# Altium schematic symbol library ecg_device_components.SchLib: 51 symbols (part 1 of 2)
Pins are listed as number, name and electrical type; pins without a type are passive.

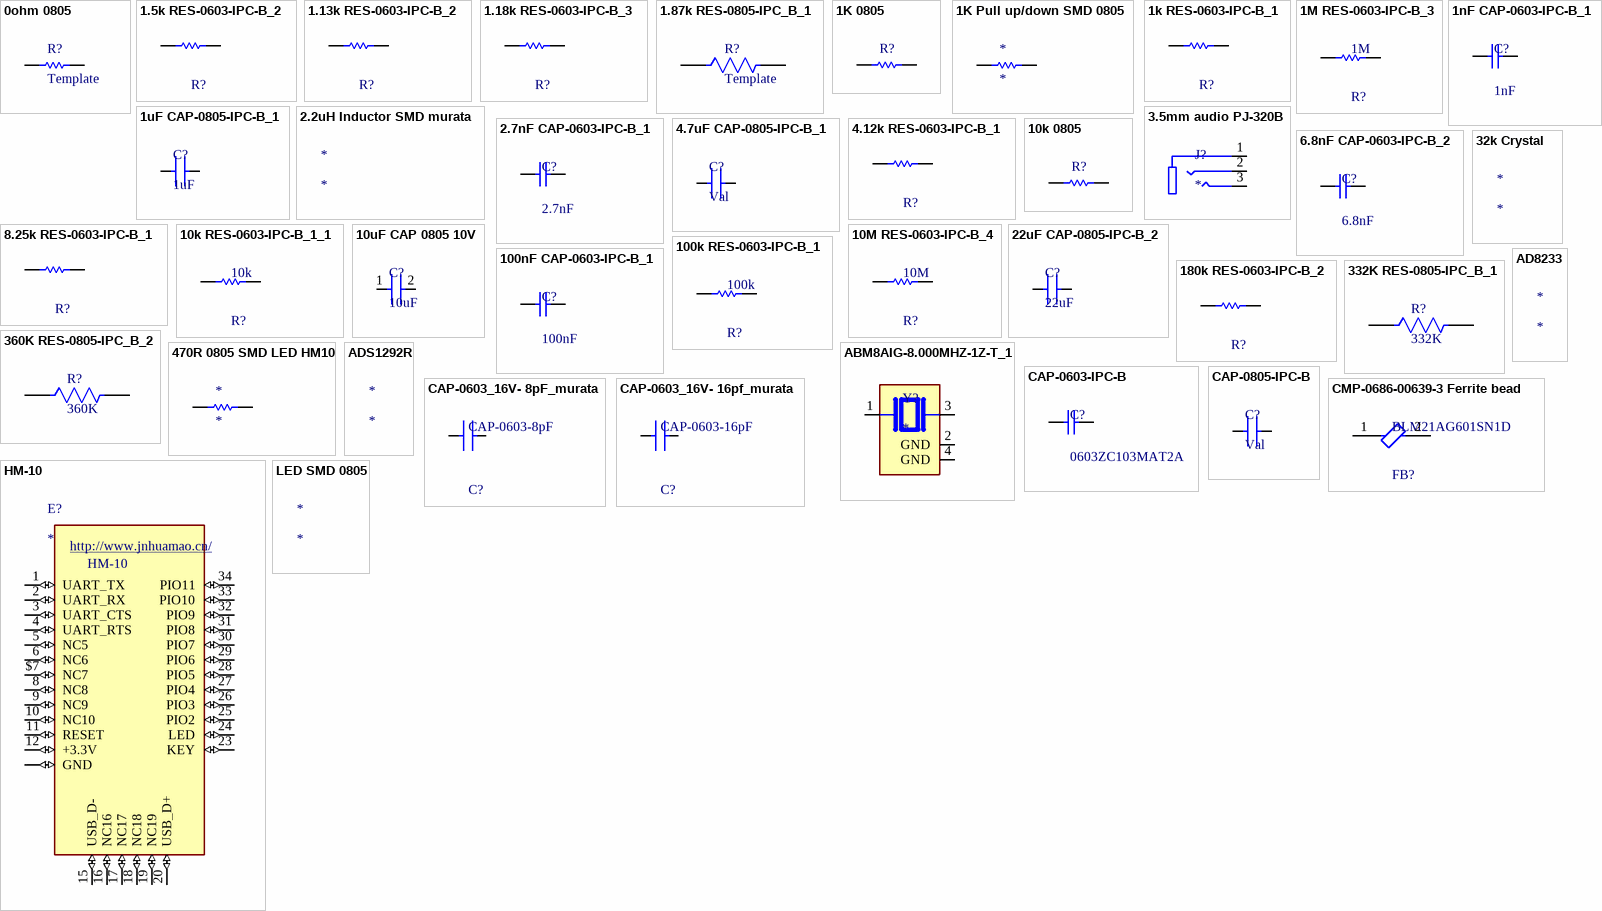
[diagram p0: symbols 0ohm 0805 to LED SMD 0805]

## 0ohm 0805
designator R?, comment Template
RES SMD 0 OHM JUMPER 1/8W 0805 / Thick Film Chip Resistor ( General ); Manufacturer: Samsung Electro-Mechanics; Manufacturer Part Number: RC2012J000CS; Max Power Dissipation: 125mW; Value: 0Ω; Temperature Coefficient: 300ppm/°C; Tolerance: 5%; Voltage Rating: 150V; Supplier: DigiKey; Supplier Part Number: 1276-5466-2-ND; RoHS: Compliant; Category: Chip SMD Resistors; Pricing: 2000000=0.01129 (USD); Case/Package: 0805; Case Code (Imperial): 0805; Case Code (Metric): 2012; China RoHS: Non-Compliant; Composition: Thick Film; Contact Plating: Tin; Country of Origin: Mainland China, Philippines, South Korea; Depth: 1.25mm; Export Control Classification Number (ECCN) Code: EAR99; Features: Moisture Resistant; Height: 500µm; Harmonized Tariff Schedule (HTS) Code: 8533.21.00.30; Introduction Date: 1996-10-01; Lead Free: Lead Free; Length: 2mm; Lifecycle Status: Production; Max Operating Temperature: 125°C; Military Standard: Not; Min Operating Temperature: -55°C; Mounting Technology: Surface Mount; Number of Terminals: 2; Number of Terminations: 2; Power Rating: 125mW; Radiation Hardening: No; REACH SVHC: Yes; Thickness: 500µm; Voltage Rating (DC): 150V; Width: 1.25mm; ComponentLink1URL: https://datasheet.octopart.com/RC2012J000CS-Samsung-Electro-Mechanics-datasheet-41960856.pdf; ComponentLink1Description: https://datasheet.octopart.com/RC2012J000CS-Samsung-Electro-Mechanics-datasheet-41960856.pdf; ComponentLink2URL: https://datasheet.octopart.com:443/RC2012J000CS-Samsung-Electro-Mechanics-datasheet-141348306.pdf?src-supplier=Future+Electronics; ComponentLink2Description: https://datasheet.octopart.com:443/RC2012J000CS-Samsung-Electro-Mechanics-datasheet-141348306.pdf?src-supplier=Future+Electronics; ComponentLink3URL: https://datasheet.octopart.com:443/RC2012J000CS-Samsung-Electro-Mechanics-datasheet-128083940.pdf?src-supplier=Future+Electronics; ComponentLink3Description: https://datasheet.octopart.com:443/RC2012J000CS-Samsung-Electro-Mechanics-datasheet-128083940.pdf?src-supplier=Future+Electronics; ComponentLink4URL: https://datasheet.octopart.com:443/RC2012J000CS-Samsung-datasheet-23755059.pdf?src-supplier=Future+Electronics; ComponentLink4Description: https://datasheet.octopart.com:443/RC2012J000CS-Samsung-datasheet-23755059.pdf?src-supplier=Future+Electronics; ComponentLink5URL: https://datasheet.octopart.com:443/RC2012J000CS-Samsung-datasheet-12510193.pdf?src-supplier=Future+Electronics; ComponentLink5Description: https://datasheet.octopart.com:443/RC2012J000CS-Samsung-datasheet-12510193.pdf?src-supplier=Future+Electronics; ComponentLink6URL: https://datasheet.octopart.com:443/RC2012J000CS-Samsung-Electro-Mechanics-datasheet-17925232.pdf?src-supplier=iiiC; ComponentLink6Description: https://datasheet.octopart.com:443/RC2012J000CS-Samsung-Electro-Mechanics-datasheet-17925232.pdf?src-supplier=iiiC
footprint RESC2013X60X35ML10T20 (Chip Resistor, 2-Leads, Body 2.1x1.35mm, IPC Low Density)
pins: 1, 2

## 1.5k RES-0603-IPC-B_2
designator R?
Max Power Dissipation: 100mW; Temperature Coefficient: 50ppm/°C; Tolerance: 0.5%; Resistance: 4.7kR; Height: 0.022inch; Width: 0.032inch; RoHS Compliant: Yes; Features: Moisture Resistant; Packaging: Tape and Reel; Number of Terminations: 2; Max Operating Temperature: 155°C; Series: AT; Min Operating Temperature: -55°C; Resistor Type: Thin Film; Length: 0.063inch; Case/Package: 0603
footprint RES-0603-IPC_B
pins: 1, 2

## 1.13k RES-0603-IPC-B_2
designator R?
Max Power Dissipation: 100mW; Temperature Coefficient: 50ppm/°C; Tolerance: 0.5%; Resistance: 4.7kR; Height: 0.022inch; Width: 0.032inch; RoHS Compliant: Yes; Features: Moisture Resistant; Packaging: Tape and Reel; Number of Terminations: 2; Max Operating Temperature: 155°C; Series: AT; Min Operating Temperature: -55°C; Resistor Type: Thin Film; Length: 0.063inch; Case/Package: 0603
footprint RES-0603-IPC_B
pins: 1, 2

## 1.18k RES-0603-IPC-B_3
designator R?
Max Power Dissipation: 100mW; Temperature Coefficient: 50ppm/°C; Tolerance: 0.5%; Resistance: 4.7kR; Height: 0.022inch; Width: 0.032inch; RoHS Compliant: Yes; Features: Moisture Resistant; Packaging: Tape and Reel; Number of Terminations: 2; Max Operating Temperature: 155°C; Series: AT; Min Operating Temperature: -55°C; Resistor Type: Thin Film; Length: 0.063inch; Case/Package: 0603
footprint RES-0603-IPC_B
pins: 1, 2

## 1.87k RES-0805-IPC_B_1
designator R?, comment Template
200mW Thick Film Resistors ±50ppm/℃ ±0.1% 1.87kΩ 0805 Chip Resistor - Surface Mount ROHS; Manufacturer: Panasonic; Manufacturer Part Number: ERJPB6B1871V; Manufacturer Lifecycle Status: ACTIVE; Part Series: High Precision Thick Film Chip Resistors; Power Rating: 250mW; Temperature Coefficient: 50ppm/°C; Working Voltage: 150V; Supplier: Farnell; Supplier Part Number: ERJPB6B1871V; RoHS: Compliant; Category: Chip SMD Resistors; Pricing: 5000=0.0407 (GBP); Case/Package: 0805; Height: 600µm; Length: 2mm; Lifecycle Status: Production; Max Operating Temperature: 155°C; Min Operating Temperature: -55°C; Mounting Technology: Surface Mount; Number of Terminals: 2; Ratings: AEC-Q200; REACH SVHC: Yes; Value: 1.87kΩ; Schedule B: 8533210045; Tolerance: 0.1%; Width: 1.25mm; ComponentLink1URL: https://datasheet.octopart.com:443/ERJPB6B1871V-Panasonic-datasheet-182147307.pdf?src-supplier=IHS; ComponentLink1Description: https://datasheet.octopart.com:443/ERJPB6B1871V-Panasonic-datasheet-182147307.pdf?src-supplier=IHS; ComponentLink2URL: https://datasheet.octopart.com:443/ERJPB6B1871V-Panasonic-datasheet-82522998.pdf?src-supplier=Panasonic; ComponentLink2Description: https://datasheet.octopart.com:443/ERJPB6B1871V-Panasonic-datasheet-82522998.pdf?src-supplier=Panasonic; ComponentLink3URL: https://sigma.octopart.com:443/150570796/technical_drawing/Panasonic-ERJPB6B1871V.pdf?src-supplier=Panasonic+SCT; ComponentLink3Description: https://sigma.octopart.com:443/150570796/technical_drawing/Panasonic-ERJPB6B1871V.pdf?src-supplier=Panasonic+SCT; ComponentLink4URL: https://datasheet.octopart.com:443/ERJPB6B1871V-Panasonic-datasheet-177212511.pdf?src-supplier=Burklin+Elektronik; ComponentLink4Description: https://datasheet.octopart.com:443/ERJPB6B1871V-Panasonic-datasheet-177212511.pdf?src-supplier=Burklin+Elektronik
footprint RES 0805 Medium (Chip Resistor, 2-Leads, Body 2.1x1.35mm, IPC Medium Density)
pins: 1, 2

## 1K 0805
designator R?, comment Template  (value not drawn)
footprint RESC2013X60X35ML10T20 (Chip Resistor, 2-Leads, Body 2.1x1.35mm, IPC Low Density)
pins: 1, 2

## 1K Pull up/down SMD 0805
designator *
Yageo RC0805FR-071KL SMD Resistor 0603 1k Ohm ±1% Thick Film; Manufacturer: Yageo Group; Max Power Dissipation: 125mW; Value: 1kΩ; Temperature Coefficient: 100ppm/°C; Voltage Rating: 150V; Supplier: Future Electronics; Supplier Part Number: RC0805FR-071KL; Manufacturer Part Number: RC0805FR-071KL; RoHS: Compliant; Category: Chip SMD Resistors; Stock: 2345000; Pricing: 10000=0.0021, 50000=0.002, 125000=0.002, 375000=0.0019, 750000=0.0018 (USD); Case/Package: 0805; Case Code (Imperial): 0805; China RoHS: Non-Compliant; Composition: Thick Film; Contact Plating: Tin; Country of Origin: Mainland China, Taiwan; Depth: 1.25mm; Export Control Classification Number (ECCN) Code: EAR99; Features: Moisture Resistant; Height: 500µm; Harmonized Tariff Schedule (HTS) Code: 8533.21.00.30; Introduction Date: 2004-09-22; Lead Free: Lead Free; Length: 2mm; Lifecycle Status: Production; Max Operating Temperature: 155°C; Military Standard: Not; Min Operating Temperature: -55°C; Mounting Technology: Surface Mount; Pins: 2; Number of Terminals: 2; Number of Terminations: 2; Packaging: Tape & Reel; Power Rating: 125mW; Radiation Hardening: No; REACH SVHC: Yes; Schedule B: 8533210045, 8533210045|8533210045, 8533210045|8533210045|8533210045, 8533210045|8533210045|8533210045|8533210045; Termination: SMD/SMT; Tolerance: 1%; Voltage Rating (AC): 150V; Voltage Rating (DC): 150V; Width: 1.25mm; Working Voltage: 150V; ComponentLink1URL: https://datasheet.octopart.com:443/RC0805FR-071KL-Yageo-datasheet-175887523.pdf?src-supplier=IHS; ComponentLink1Description: https://datasheet.octopart.com:443/RC0805FR-071KL-Yageo-datasheet-175887523.pdf?src-supplier=IHS; ComponentLink2URL: https://datasheet.octopart.com:443/RC0805FR-071KL-Yageo-datasheet-103092701.pdf?src-supplier=Upverter; ComponentLink2Description: https://datasheet.octopart.com:443/RC0805FR-071KL-Yageo-datasheet-103092701.pdf?src-supplier=Upverter; ComponentLink3URL: https://datasheet.octopart.com:443/RC0805FR-071KL-Yageo-datasheet-8330313.pdf?src-supplier=element14+APAC; ComponentLink3Description: https://datasheet.octopart.com:443/RC0805FR-071KL-Yageo-datasheet-8330313.pdf?src-supplier=element14+APAC; ComponentLink4URL: https://datasheet.octopart.com:443/RC0805FR-071KL-Yageo-datasheet-62067350.pdf?src-supplier=element14+APAC; ComponentLink4Description: https://datasheet.octopart.com:443/RC0805FR-071KL-Yageo-datasheet-62067350.pdf?src-supplier=element14+APAC; ComponentLink5URL: https://datasheet.octopart.com:443/RC0805FR-071KL-Yageo-datasheet-12592811.pdf?src-supplier=element14+APAC; ComponentLink5Description: https://datasheet.octopart.com:443/RC0805FR-071KL-Yageo-datasheet-12592811.pdf?src-supplier=element14+APAC; ComponentLink6URL: https://datasheet.octopart.com:443/RC0805FR-071KL-Yageo-Group-datasheet-190305687.pdf?src-supplier=Newark; ComponentLink6Description: https://datasheet.octopart.com:443/RC0805FR-071KL-Yageo-Group-datasheet-190305687.pdf?src-supplier=Newark; ComponentLink7URL: https://datasheet.octopart.com:443/RC0805FR-071KL-Yageo-Group-datasheet-176638170.pdf?src-supplier=Future+Electronics; ComponentLink7Description: https://datasheet.octopart.com:443/RC0805FR-071KL-Yageo-Group-datasheet-176638170.pdf?src-supplier=Future+Electronics; ComponentLink8URL: https://datasheet.octopart.com:443/RC0805FR-071KL-Yageo-datasheet-164759695.pdf?src-supplier=Future+Electronics; ComponentLink8Description: https://datasheet.octopart.com:443/RC0805FR-071KL-Yageo-datasheet-164759695.pdf?src-supplier=Future+Electronics; ComponentLink9URL: https://datasheet.octopart.com:443/RC0805FR-071KL-Yageo-datasheet-8324252.pdf?src-supplier=Future+Electronics; ComponentLink9Description: https://datasheet.octopart.com:443/RC0805FR-071KL-Yageo-datasheet-8324252.pdf?src-supplier=Future+Electronics; ComponentLink10URL: https://datasheet.octopart.com:443/RC0805FR-071KL-Yageo-datasheet-79472498.pdf?src-supplier=Megastar; ComponentLink10Description: https://datasheet.octopart.com:443/RC0805FR-071KL-Yageo-datasheet-79472498.pdf?src-supplier=Megastar; ComponentLink11URL: https://datasheet.octopart.com/RC0805FR-071KL-Yageo-datasheet-73766026.pdf; ComponentLink11Description: https://datasheet.octopart.com/RC0805FR-071KL-Yageo-datasheet-73766026.pdf; ComponentLink12URL: https://datasheet.octopart.com:443/RC0805FR-071KL-Yageo-datasheet-13691069.pdf?src-supplier=Farnell; ComponentLink12Description: https://datasheet.octopart.com:443/RC0805FR-071KL-Yageo-datasheet-13691069.pdf?src-supplier=Farnell; ComponentLink13URL: https://datasheet.octopart.com:443/RC0805FR-071KL-Yageo-datasheet-118657.pdf?src-supplier=DigiKey; ComponentLink13Description: https://datasheet.octopart.com:443/RC0805FR-071KL-Yageo-datasheet-118657.pdf?src-supplier=DigiKey; ComponentLink14URL: https://datasheet.octopart.com:443/RC0805FR-071KL-Yageo-datasheet-502840.pdf?src-supplier=element14; ComponentLink14Description: https://datasheet.octopart.com:443/RC0805FR-071KL-Yageo-datasheet-502840.pdf?src-supplier=element14; ComponentLink15URL: http://sigma.octopart.com:80/conflict_mineral_statement/Yageo-company-3.pdf?src-supplier=Compliance+Statements; ComponentLink15Description: http://sigma.octopart.com:80/conflict_mineral_statement/Yageo-company-3.pdf?src-supplier=Compliance+Statements; ComponentLink16URL: http://sigma.octopart.com:80/rohs_statement/Yageo-company-2.pdf?src-supplier=Compliance+Statements; ComponentLink16Description: http://sigma.octopart.com:80/rohs_statement/Yageo-company-2.pdf?src-supplier=Compliance+Statements
footprint RESC2013X60X35ML10T20 (Chip Resistor, 2-Leads, Body 2.1x1.35mm, IPC Low Density)
pins: 1, 2

## 1k RES-0603-IPC-B_1
designator R?
Max Power Dissipation: 100mW; Temperature Coefficient: 50ppm/°C; Tolerance: 0.5%; Resistance: 4.7kR; Height: 0.022inch; Width: 0.032inch; RoHS Compliant: Yes; Features: Moisture Resistant; Packaging: Tape and Reel; Number of Terminations: 2; Max Operating Temperature: 155°C; Series: AT; Min Operating Temperature: -55°C; Resistor Type: Thin Film; Length: 0.063inch; Case/Package: 0603
footprint RES-0603-IPC_B
pins: 1, 2

## 1M RES-0603-IPC-B_3
designator R?, comment 1M
Max Power Dissipation: 100mW; Temperature Coefficient: 50ppm/°C; Tolerance: 0.5%; Resistance: 4.7kR; Height: 0.022inch; Width: 0.032inch; RoHS Compliant: Yes; Features: Moisture Resistant; Packaging: Tape and Reel; Number of Terminations: 2; Max Operating Temperature: 155°C; Series: AT; Min Operating Temperature: -55°C; Resistor Type: Thin Film; Length: 0.063inch; Case/Package: 0603
footprint RES-0603-IPC_B
pins: 1, 2

## 1nF CAP-0603-IPC-B_1
designator C?, comment 1nF
Manufacturer: AVX Interconnect / Elco; Part Number: 0603ZC103MAT2A
footprint CAP-0603-IPC_B
pins: 1, 2
1 alternate drawing of the same symbol

## 1uF CAP-0805-IPC-B_1
designator C?, comment 1uF
footprint CAP-0805-IPC_B
pins: 1, 2

## 2.2uH Inductor SMD murata
designator *

## 2.7nF CAP-0603-IPC-B_1
designator C?, comment 2.7nF
Manufacturer: AVX Interconnect / Elco; Part Number: 0603ZC103MAT2A
footprint CAP-0603-IPC_B
pins: 1, 2
1 alternate drawing of the same symbol

## 3.5mm audio PJ-320B
designator J?
ÐŸÐ¾Ñ€Ñ‚ Ð´Ð»Ñ Ð½Ð°ÑƒÑˆÐ½Ð¸ÐºÐ¾Ð²; MP: PJ-320B; MF: Luoyang Dishang electronics; SnapEDA_Link: https://www.snapeda.com/parts/PJ-320B/Luoyang%20Dishang%20electronics/view-part/5519978/?ref=snap; Value: *; Availability: Not in stock; Check_prices: https://www.snapeda.com/parts/PJ-320B/Luoyang%20Dishang%20electronics/view-part/5519978/?ref=eda; Package: Package; Price: None
footprint 3.5mm Audio PJ-320B
pins: 1 SLEEVE, 2 RING, 3 TIP

## 4.7uF CAP-0805-IPC-B_1
designator C?, comment Val
footprint CAP-0805-IPC_B
pins: 1, 2

## 4.12k RES-0603-IPC-B_1
designator R?
Max Power Dissipation: 100mW; Temperature Coefficient: 50ppm/°C; Tolerance: 0.5%; Resistance: 4.7kR; Height: 0.022inch; Width: 0.032inch; RoHS Compliant: Yes; Features: Moisture Resistant; Packaging: Tape and Reel; Number of Terminations: 2; Max Operating Temperature: 155°C; Series: AT; Min Operating Temperature: -55°C; Resistor Type: Thin Film; Length: 0.063inch; Case/Package: 0603
footprint RES-0603-IPC_B
pins: 1, 2

## 6.8nF CAP-0603-IPC-B_2
designator C?, comment 6.8nF
Manufacturer: AVX Interconnect / Elco; Part Number: 0603ZC103MAT2A
footprint CAP-0603-IPC_B
pins: 1, 2
1 alternate drawing of the same symbol

## 8.25k RES-0603-IPC-B_1
designator R?
Res Thin Film 0603 8.25K Ohm 0.1% 0.1W(1/10W) ±25ppm/C Pad SMD T/R Automotive AEC-Q200; Manufacturer: Panasonic; Manufacturer Part Number: ERA3AEB8251V; Manufacturer Lifecycle Status: ACTIVE; Part Series: Thin Film Chip Resistors, High Reliability Type; Max Power Dissipation: 100mW; Temperature Coefficient: 50ppm/°C; Tolerance: 0.5%; Resistance: 4.7kR; Value: 8.25kΩ; Voltage Rating: 75V; Height: 0.022inch; Width: 0.032inch; RoHS Compliant: Yes; Features: Moisture Resistant; Packaging: Tape and Reel; Number of Terminations: 2; Max Operating Temperature: 155°C; Series: AT; Min Operating Temperature: -55°C; Resistor Type: Thin Film; Length: 0.063inch; Case/Package: 0603; Supplier: Farnell; Supplier Part Number: ERA3AEB8251V; RoHS: Compliant; Category: Chip SMD Resistors; Stock: 5000; Pricing: 5000=0.0315 (GBP); Case Code (Imperial): 0603; Case Code (Metric): 1608; Composition: Thin Film; Contact Plating: Tin; Country of Origin: Japan; Depth: 800µm; Export Control Classification Number (ECCN) Code: EAR99; Harmonized Tariff Schedule (HTS) Code: 8533.21.00.30; Introduction Date: 2011-03-24; Lead Free: Lead Free; Lifecycle Status: Production; Military Standard: Not; Mounting Technology: Surface Mount; Pins: 2; Number of Terminals: 2; Power Rating: 100mW; Radiation Hardening: No; Ratings: AEC-Q200; REACH SVHC: Yes; Schedule B: 8533210045, 8533210045|8533210045, 8533210045|8533210045|8533210045, 8533210045|8533210045|8533210045|8533210045; Termination: SMD/SMT; Voltage Rating (DC): 75V; Working Voltage: 75V; ComponentLink1URL: https://datasheet.octopart.com:443/ERA3AEB8251V-Panasonic-datasheet-62287448.pdf?src-supplier=Future+Electronics; ComponentLink1Description: https://datasheet.octopart.com:443/ERA3AEB8251V-Panasonic-datasheet-62287448.pdf?src-supplier=Future+Electronics; ComponentLink2URL: https://datasheet.octopart.com:443/ERA3AEB8251V-Panasonic-datasheet-8367715.pdf?src-supplier=Newark; ComponentLink2Description: https://datasheet.octopart.com:443/ERA3AEB8251V-Panasonic-datasheet-8367715.pdf?src-supplier=Newark; ComponentLink3URL: https://datasheet.octopart.com:443/ERA3AEB8251V-Panasonic-datasheet-136531316.pdf?src-supplier=Newark; ComponentLink3Description: https://datasheet.octopart.com:443/ERA3AEB8251V-Panasonic-datasheet-136531316.pdf?src-supplier=Newark; ComponentLink4URL: https://datasheet.octopart.com:443/ERA-3AEB8251V-Panasonic-datasheet-184398012.pdf?src-supplier=Newark; ComponentLink4Description: https://datasheet.octopart.com:443/ERA-3AEB8251V-Panasonic-datasheet-184398012.pdf?src-supplier=Newark; ComponentLink5URL: https://datasheet.octopart.com:443/ERA-3AEB8251V-Panasonic-datasheet-154766165.pdf?src-supplier=JRH+Electronics; ComponentLink5Description: https://datasheet.octopart.com:443/ERA-3AEB8251V-Panasonic-datasheet-154766165.pdf?src-supplier=JRH+Electronics; ComponentLink6URL: https://datasheet.octopart.com:443/ERA3AEB8251V-Panasonic-datasheet-13266200.pdf?src-supplier=_legacy+Avnet; ComponentLink6Description: https://datasheet.octopart.com:443/ERA3AEB8251V-Panasonic-datasheet-13266200.pdf?src-supplier=_legacy+Avnet; ComponentLink7URL: https://datasheet.octopart.com:443/ERA3AEB8251V-Panasonic-datasheet-12510007.pdf?src-supplier=_legacy+Avnet; ComponentLink7Description: https://datasheet.octopart.com:443/ERA3AEB8251V-Panasonic-datasheet-12510007.pdf?src-supplier=_legacy+Avnet; ComponentLink8URL: https://datasheet.octopart.com:443/ERA3AEB8251V-Panasonic-datasheet-11763931.pdf?src-supplier=_legacy+Avnet; ComponentLink8Description: https://datasheet.octopart.com:443/ERA3AEB8251V-Panasonic-datasheet-11763931.pdf?src-supplier=_legacy+Avnet; ComponentLink9URL: https://datasheet.octopart.com:443/ERA3AEB8251V-Panasonic-datasheet-10840895.pdf?src-supplier=_legacy+Avnet; ComponentLink9Description: https://datasheet.octopart.com:443/ERA3AEB8251V-Panasonic-datasheet-10840895.pdf?src-supplier=_legacy+Avnet; ComponentLink10URL: https://datasheet.octopart.com:443/ERA3AEB8251V-Panasonic-datasheet-5392808.pdf?src-supplier=_legacy+Avnet; ComponentLink10Description: https://datasheet.octopart.com:443/ERA3AEB8251V-Panasonic-datasheet-5392808.pdf?src-supplier=_legacy+Avnet; ComponentLink11URL: https://datasheet.octopart.com:443/ERA3AEB8251V-Panasonic-datasheet-188913046.pdf?src-supplier=TME; ComponentLink11Description: https://datasheet.octopart.com:443/ERA3AEB8251V-Panasonic-datasheet-188913046.pdf?src-supplier=TME; ComponentLink12URL: https://sigma.octopart.com:443/150570796/technical_drawing/Panasonic-ERA3AEB8251V.pdf?src-supplier=Panasonic+SCT; ComponentLink12Description: https://sigma.octopart.com:443/150570796/technical_drawing/Panasonic-ERA3AEB8251V.pdf?src-supplier=Panasonic+SCT; ComponentLink13URL: https://datasheet.octopart.com:443/ERA3AEB8251V-Panasonic-datasheet-138783076.pdf?src-supplier=Burklin+Elektronik; ComponentLink13Description: https://datasheet.octopart.com:443/ERA3AEB8251V-Panasonic-datasheet-138783076.pdf?src-supplier=Burklin+Elektronik; ComponentLink14URL: https://datasheet.octopart.com/ERA3AEB8251V-Panasonic-datasheet-78375410.pdf; ComponentLink14Description: https://datasheet.octopart.com/ERA3AEB8251V-Panasonic-datasheet-78375410.pdf; ComponentLink15URL: https://datasheet.octopart.com:443/ERA3AEB8251V-Panasonic---ECG-datasheet-15994758.pdf?src-supplier=Farnell; ComponentLink15Description: https://datasheet.octopart.com:443/ERA3AEB8251V-Panasonic---ECG-datasheet-15994758.pdf?src-supplier=Farnell; ComponentLink16URL: https://datasheet.octopart.com:443/ERA3AEB8251V-Panasonic-datasheet-33006989.pdf?src-supplier=Electro+Sonic; ComponentLink16Description: https://datasheet.octopart.com:443/ERA3AEB8251V-Panasonic-datasheet-33006989.pdf?src-supplier=Electro+Sonic; ComponentLink17URL: https://datasheet.octopart.com:443/ERA-3AEB8251V-Panasonic-datasheet-46744048.pdf?src-supplier=Electro+Sonic; ComponentLink17Description: https://datasheet.octopart.com:443/ERA-3AEB8251V-Panasonic-datasheet-46744048.pdf?src-supplier=Electro+Sonic
footprint RES-0603-IPC_B
pins: 1, 2

## 10k 0805
designator R?, comment Template  (value not drawn)
footprint RESC2013X60X35ML10T20 (Chip Resistor, 2-Leads, Body 2.1x1.35mm, IPC Low Density)
pins: 1, 2

## 10k RES-0603-IPC-B_1_1
designator R?, comment 10k
Max Power Dissipation: 100mW; Temperature Coefficient: 50ppm/°C; Tolerance: 0.5%; Resistance: 4.7kR; Height: 0.022inch; Width: 0.032inch; RoHS Compliant: Yes; Features: Moisture Resistant; Packaging: Tape and Reel; Number of Terminations: 2; Max Operating Temperature: 155°C; Series: AT; Min Operating Temperature: -55°C; Resistor Type: Thin Film; Length: 0.063inch; Case/Package: 0603
footprint RES-0603-IPC_B
pins: 1, 2

## 10M RES-0603-IPC-B_4
designator R?, comment 10M
Max Power Dissipation: 100mW; Temperature Coefficient: 50ppm/°C; Tolerance: 0.5%; Resistance: 4.7kR; Height: 0.022inch; Width: 0.032inch; RoHS Compliant: Yes; Features: Moisture Resistant; Packaging: Tape and Reel; Number of Terminations: 2; Max Operating Temperature: 155°C; Series: AT; Min Operating Temperature: -55°C; Resistor Type: Thin Film; Length: 0.063inch; Case/Package: 0603
footprint RES-0603-IPC_B
pins: 1, 2

## 10uF CAP 0805 10V
designator C?, comment 10uF
50V 10uF X5R 卤10% 0805 Multilayer Ceramic Capacitors MLCC - SMD/SMT ROHS; Manufacturer: Samsung Electro-Mechanics; Manufacturer Part Number: CL21A106KBYQNNE; Value: 10µF; Tolerance: 10%; Supplier: Mouser; Supplier Part Number: 187-CL21A106KBYQNNE; RoHS: Compliant; Category: Ceramic Capacitors; Stock: 130399; Pricing: 1=0.49, 10=0.221, 50=0.221, 100=0.197, 1000=0.146, 10000=0.123 (USD); Case/Package: 0805; China RoHS: Compliant; Dielectric Material: Ceramic; Height: 1.45mm; Lifecycle Status: Production; Material: Ceramic; Max Operating Temperature: 85°C; Min Operating Temperature: -55°C; Mounting Technology: Surface Mount; Number of Terminals: 2; REACH SVHC: Yes; Voltage Rating: 50V; Voltage Rating (DC): 50V; ComponentLink1URL: https://datasheet.octopart.com:443/CL21A106KBYQNNE-Samsung-Electro-Mechanics-datasheet-182022676.pdf?src-supplier=IHS; ComponentLink1Description: https://datasheet.octopart.com:443/CL21A106KBYQNNE-Samsung-Electro-Mechanics-datasheet-182022676.pdf?src-supplier=IHS; ComponentLink2URL: https://datasheet.octopart.com:443/CL21A106KBYQNNE-Samsung-Electro-Mechanics-datasheet-141347528.pdf?src-supplier=Samsung+SCT; ComponentLink2Description: https://datasheet.octopart.com:443/CL21A106KBYQNNE-Samsung-Electro-Mechanics-datasheet-141347528.pdf?src-supplier=Samsung+SCT; ComponentLink3URL: https://datasheet.octopart.com:443/CL21A106KBYQNNE-Samsung-Electro-Mechanics-datasheet-149154152.pdf?src-supplier=Future+Electronics; ComponentLink3Description: https://datasheet.octopart.com:443/CL21A106KBYQNNE-Samsung-Electro-Mechanics-datasheet-149154152.pdf?src-supplier=Future+Electronics
footprint CAP-0805-IPC_B
pins: 1, 2

## 22uF CAP-0805-IPC-B_2
designator C?, comment 22uF
10V 22uF X5R 卤10% 0805 Multilayer Ceramic Capacitors MLCC - SMD/SMT ROHS; Manufacturer: Samsung Electro-Mechanics; Manufacturer Part Number: CL21A226KPCLRNC; Value: 22µF; Tolerance: 10%; Supplier: Farnell; Supplier Part Number: CL21A226KPCLRNC; RoHS: Compliant; Category: Ceramic Capacitors; Stock: 18202; Pricing: 10=0.117, 100=0.102, 500=0.0764, 1000=0.0696, 2000=0.0605, 4000=0.0514 (GBP); Case/Package: 0805; Case Code (Imperial): 0805; Case Code (Metric): 2012; China RoHS: Compliant; Country of Origin: Mainland China, Philippines, South Korea; Depth: 1.25mm; Dielectric: X5R; Dielectric Material: Ceramic; Export Control Classification Number (ECCN) Code: EAR99; Height: 850µm; Harmonized Tariff Schedule (HTS) Code: 8532.24.00.20; Introduction Date: 2011-04-13; Lead Free: Lead Free; Length: 2mm; Lifecycle Status: Production; Material: Ceramic; Max Operating Temperature: 85°C; Min Operating Temperature: -55°C; Mounting Technology: Surface Mount; Number of Terminals: 2; Packaging: Tape and Reel; Radiation Hardening: No; REACH SVHC: Yes; Schedule B: 8532240020, 8532240020|8532240020, 8532240020|8532240020|8532240020, 8532240020|8532240020|8532240020|8532240020; Thickness: 939.8µm; Voltage Rating: 10V; Voltage Rating (DC): 10V; Width: 1.25mm; ComponentLink1URL: https://datasheet.octopart.com:443/CL21A226KPCLRNC-Samsung-Electro-Mechanics-datasheet-137006305.pdf?src-supplier=IHS; ComponentLink1Description: https://datasheet.octopart.com:443/CL21A226KPCLRNC-Samsung-Electro-Mechanics-datasheet-137006305.pdf?src-supplier=IHS; ComponentLink2URL: https://datasheet.octopart.com:443/CL21A226KPCLRNC-Samsung-Electro-Mechanics-datasheet-181551865.pdf?src-supplier=Newark; ComponentLink2Description: https://datasheet.octopart.com:443/CL21A226KPCLRNC-Samsung-Electro-Mechanics-datasheet-181551865.pdf?src-supplier=Newark; ComponentLink3URL: https://datasheet.octopart.com:443/CL21A226KPCLRNC-Samsung-Electro-Mechanics-datasheet-110226409.pdf?src-supplier=Future+Electronics; ComponentLink3Description: https://datasheet.octopart.com:443/CL21A226KPCLRNC-Samsung-Electro-Mechanics-datasheet-110226409.pdf?src-supplier=Future+Electronics; ComponentLink4URL: https://datasheet.octopart.com:443/CL21A226KPCLRNC-Samsung-Electro-Mechanics-datasheet-93783782.pdf?src-supplier=Future+Electronics; ComponentLink4Description: https://datasheet.octopart.com:443/CL21A226KPCLRNC-Samsung-Electro-Mechanics-datasheet-93783782.pdf?src-supplier=Future+Electronics; ComponentLink5URL: https://datasheet.octopart.com:443/CL21A226KPCLRNC-Samsung-Electro-Mechanics-datasheet-67374603.pdf?src-supplier=Future+Electronics; ComponentLink5Description: https://datasheet.octopart.com:443/CL21A226KPCLRNC-Samsung-Electro-Mechanics-datasheet-67374603.pdf?src-supplier=Future+Electronics; ComponentLink6URL: https://datasheet.octopart.com:443/CL21A226KPCLRNC-Samsung-Electro-Mechanics-datasheet-149136978.pdf?src-supplier=Future+Electronics; ComponentLink6Description: https://datasheet.octopart.com:443/CL21A226KPCLRNC-Samsung-Electro-Mechanics-datasheet-149136978.pdf?src-supplier=Future+Electronics; ComponentLink7URL: https://datasheet.octopart.com:443/CL21A226KPCLRNC-Samsung-datasheet-8326407.pdf?src-supplier=TME; ComponentLink7Description: https://datasheet.octopart.com:443/CL21A226KPCLRNC-Samsung-datasheet-8326407.pdf?src-supplier=TME
footprint CAP-0805-IPC_B
pins: 1, 2

## 32k Crystal
designator *
Crystal 32.7680Khz 6Pf Smd/Tape & Reel (Tr) Rohs Compliant: Yes |Abracon ABS06-32.768KHZ-6-T; ESR (Equivalent Series Resistance): 90kΩ; Frequency Stability: 72ppm; Frequency Tolerance: 0.002%; Supplier: DigiKey; Supplier Part Number: 535-ABS06-32.768KHZ-6-TCT-ND; Manufacturer: Abracon; Manufacturer Part Number: ABS06-32.768KHZ-6-T; RoHS: Compliant; Category: Crystals; Stock: 4324; Pricing: 1=1.65, 10=1.431, 25=1.3532, 50=1.297, 100=1.2434, 250=1.17584, 500=1.12722, 1000=1.08064 (USD); Case/Package: SMD/SMT; China RoHS: Compliant; Contact Plating: Gold; Frequency: 32.768kHz; Height: 600µm; Harmonized Tariff Schedule (HTS) Code: 8541.60.00.10; Introduction Date: 2015-04-08; Length: 2.0066mm; Lifecycle Status: Production; Load Capacitance: 6pF; Max Operating Temperature: 85°C; Min Operating Temperature: -40°C; Mounting Technology: Surface Mount; Pins: 2; Packaging: Tape & Reel (TR); Radiation Hardening: No; REACH SVHC: Yes; Schedule B: 8541600025, 8541600025|8541600025|8541600025|8541600025|8541600025, 8541600080; ESR: 90kΩ; Tolerance: 0.002%; Width: 1.1938mm; ComponentLink1URL: https://datasheet.octopart.com:443/ABS06-32.768KHZ-6-T-Abracon-datasheet-166807294.pdf?src-supplier=IHS; ComponentLink1Description: https://datasheet.octopart.com:443/ABS06-32.768KHZ-6-T-Abracon-datasheet-166807294.pdf?src-supplier=IHS; ComponentLink2URL: https://datasheet.octopart.com:443/ABS06-32.768KHZ-6-T-Abracon-datasheet-41191558.pdf?src-supplier=Future+Electronics; ComponentLink2Description: https://datasheet.octopart.com:443/ABS06-32.768KHZ-6-T-Abracon-datasheet-41191558.pdf?src-supplier=Future+Electronics; ComponentLink3URL: https://datasheet.octopart.com:443/ABS06-32.768KHZ-6-T-Abracon-datasheet-154833176.pdf?src-supplier=Master+Electronics; ComponentLink3Description: https://datasheet.octopart.com:443/ABS06-32.768KHZ-6-T-Abracon-datasheet-154833176.pdf?src-supplier=Master+Electronics; ComponentLink4URL: https://datasheet.octopart.com:443/ABS06-32.768KHZ-6-T-Abracon-datasheet-10980089.pdf?src-supplier=Sager+Electronics; ComponentLink4Description: https://datasheet.octopart.com:443/ABS06-32.768KHZ-6-T-Abracon-datasheet-10980089.pdf?src-supplier=Sager+Electronics; ComponentLink5URL: https://datasheet.octopart.com:443/ABS06-32.768KHZ-6-T-Abracon-datasheet-8509249.pdf?src-supplier=Sager+Electronics; ComponentLink5Description: https://datasheet.octopart.com:443/ABS06-32.768KHZ-6-T-Abracon-datasheet-8509249.pdf?src-supplier=Sager+Electronics; ComponentLink6URL: http://sigma.octopart.com:80/conflict_mineral_statement/Abracon-company-27.pdf?src-supplier=Compliance+Statements; ComponentLink6Description: http://sigma.octopart.com:80/conflict_mineral_statement/Abracon-company-27.pdf?src-supplier=Compliance+Statements

## 100k RES-0603-IPC-B_1
designator R?, comment 100k
Max Power Dissipation: 100mW; Temperature Coefficient: 50ppm/°C; Tolerance: 0.5%; Resistance: 4.7kR; Height: 0.022inch; Width: 0.032inch; RoHS Compliant: Yes; Features: Moisture Resistant; Packaging: Tape and Reel; Number of Terminations: 2; Max Operating Temperature: 155°C; Series: AT; Min Operating Temperature: -55°C; Resistor Type: Thin Film; Length: 0.063inch; Case/Package: 0603
footprint RES-0603-IPC_B
pins: 1, 2

## 100nF CAP-0603-IPC-B_1
designator C?, comment 100nF
Manufacturer: AVX Interconnect / Elco; Part Number: 0603ZC103MAT2A
footprint CAP-0603-IPC_B
pins: 1, 2
1 alternate drawing of the same symbol

## 180k RES-0603-IPC-B_2
designator R?, comment 180k  (value not drawn)
Max Power Dissipation: 100mW; Temperature Coefficient: 50ppm/°C; Tolerance: 0.5%; Resistance: 4.7kR; Height: 0.022inch; Width: 0.032inch; RoHS Compliant: Yes; Features: Moisture Resistant; Packaging: Tape and Reel; Number of Terminations: 2; Max Operating Temperature: 155°C; Series: AT; Min Operating Temperature: -55°C; Resistor Type: Thin Film; Length: 0.063inch; Case/Package: 0603
footprint RES-0603-IPC_B
pins: 1, 2

## 332K RES-0805-IPC_B_1
designator R?, comment 332K
footprint RES 0805 Medium (Chip Resistor, 2-Leads, Body 2.1x1.35mm, IPC Medium Density)
pins: 1, 2

## 360K RES-0805-IPC_B_2
designator R?, comment 360K
footprint RES 0805 Medium (Chip Resistor, 2-Leads, Body 2.1x1.35mm, IPC Medium Density)
pins: 1, 2

## 470R 0805 SMD LED HM10
designator *
125mW Thick Film Resistors 150V ±100ppm/℃ ±1% 470Ω 0805 Chip Resistor - Surface Mount ROHS; Manufacturer: Yageo Group; Manufacturer Part Number: RC0805FR-07470RL; Temperature Coefficient: 100ppm/°C; Supplier: Future Electronics; Supplier Part Number: RC0805FR-07470RL; RoHS: Compliant; Category: Chip SMD Resistors; Stock: 60000; Pricing: 10000=0.0021, 50000=0.002, 125000=0.002, 375000=0.0019, 750000=0.0018 (USD); Case/Package: 0805; Case Code (Imperial): 0805; China RoHS: Non-Compliant; Composition: Thick Film; Contact Plating: Tin; Country of Origin: Mainland China, Taiwan; Depth: 1.25mm; Export Control Classification Number (ECCN) Code: EAR99; Features: Moisture Resistant; Height: 500µm; Harmonized Tariff Schedule (HTS) Code: 8533.21.00.30; Introduction Date: 2004-09-22; Lead Free: Lead Free; Lead Pitch: 400µm; Length: 2mm; Lifecycle Status: Production; Max Operating Temperature: 155°C; Max Power Dissipation: 125mW; Military Standard: Not; Min Operating Temperature: -55°C; Mounting Technology: Surface Mount; Pins: 2; Number of Terminals: 2; Number of Terminations: 2; Packaging: Tape & Reel; Power Rating: 125mW; Radiation Hardening: No; REACH SVHC: Yes; Value: 470Ω; Schedule B: 8533210045, 8533210045|8533210045|8533210045|8533210045|8533210045|8533210045|8533210045|8533210045|8533210045|8533210045|8533210045|8533210045|8533210045|8533210045|8533210045|8533210045|8533210045|8533210045|8533210045|8533210045|8533210045|8533210045|8533210045|85; Termination: SMD/SMT; Tolerance: 1%; Voltage Rating: 150V; Voltage Rating (AC): 150V; Voltage Rating (DC): 150V; Width: 1.25mm; Working Voltage: 150V; ComponentLink1URL: https://datasheet.octopart.com:443/RC0805FR-07470RL-Yageo-datasheet-175887523.pdf?src-supplier=Newark; ComponentLink1Description: https://datasheet.octopart.com:443/RC0805FR-07470RL-Yageo-datasheet-175887523.pdf?src-supplier=Newark; ComponentLink2URL: https://datasheet.octopart.com:443/RC0805FR-07470RL-Yageo-Group-datasheet-190051977.pdf?src-supplier=Newark; ComponentLink2Description: https://datasheet.octopart.com:443/RC0805FR-07470RL-Yageo-Group-datasheet-190051977.pdf?src-supplier=Newark; ComponentLink3URL: https://datasheet.octopart.com:443/RC0805FR-07470RL-Yageo-datasheet-103092701.pdf?src-supplier=Upverter; ComponentLink3Description: https://datasheet.octopart.com:443/RC0805FR-07470RL-Yageo-datasheet-103092701.pdf?src-supplier=Upverter; ComponentLink4URL: https://datasheet.octopart.com:443/RC0805FR-07470RL-Yageo-datasheet-98239111.pdf?src-supplier=Upverter; ComponentLink4Description: https://datasheet.octopart.com:443/RC0805FR-07470RL-Yageo-datasheet-98239111.pdf?src-supplier=Upverter; ComponentLink5URL: https://datasheet.octopart.com:443/RC0805FR-07470RL-Yageo-datasheet-8330313.pdf?src-supplier=element14+APAC; ComponentLink5Description: https://datasheet.octopart.com:443/RC0805FR-07470RL-Yageo-datasheet-8330313.pdf?src-supplier=element14+APAC; ComponentLink6URL: https://datasheet.octopart.com:443/RC0805FR-07470RL-Yageo-datasheet-62067350.pdf?src-supplier=Farnell; ComponentLink6Description: https://datasheet.octopart.com:443/RC0805FR-07470RL-Yageo-datasheet-62067350.pdf?src-supplier=Farnell; ComponentLink7URL: https://datasheet.octopart.com:443/RC0805FR-07470RL-Yageo-datasheet-13691069.pdf?src-supplier=Farnell; ComponentLink7Description: https://datasheet.octopart.com:443/RC0805FR-07470RL-Yageo-datasheet-13691069.pdf?src-supplier=Farnell; ComponentLink8URL: https://datasheet.octopart.com:443/RC0805FR-07470RL-Yageo-Group-datasheet-176638170.pdf?src-supplier=Future+Electronics; ComponentLink8Description: https://datasheet.octopart.com:443/RC0805FR-07470RL-Yageo-Group-datasheet-176638170.pdf?src-supplier=Future+Electronics; ComponentLink9URL: https://datasheet.octopart.com:443/RC0805FR-07470RL-Yageo-datasheet-164759695.pdf?src-supplier=Future+Electronics; ComponentLink9Description: https://datasheet.octopart.com:443/RC0805FR-07470RL-Yageo-datasheet-164759695.pdf?src-supplier=Future+Electronics; ComponentLink10URL: https://datasheet.octopart.com:443/RC0805FR-07470RL-Yageo-datasheet-12592811.pdf?src-supplier=Future+Electronics; ComponentLink10Description: https://datasheet.octopart.com:443/RC0805FR-07470RL-Yageo-datasheet-12592811.pdf?src-supplier=Future+Electronics; ComponentLink11URL: https://datasheet.octopart.com:443/RC0805FR-07470RL-Yageo-datasheet-8324252.pdf?src-supplier=Future+Electronics; ComponentLink11Description: https://datasheet.octopart.com:443/RC0805FR-07470RL-Yageo-datasheet-8324252.pdf?src-supplier=Future+Electronics; ComponentLink12URL: https://datasheet.octopart.com:443/RC0805FR-07470RL-Yageo-datasheet-79472498.pdf?src-supplier=Megastar; ComponentLink12Description: https://datasheet.octopart.com:443/RC0805FR-07470RL-Yageo-datasheet-79472498.pdf?src-supplier=Megastar; ComponentLink13URL: https://datasheet.octopart.com/RC0805FR-07470RL-Yageo-datasheet-73766026.pdf; ComponentLink13Description: https://datasheet.octopart.com/RC0805FR-07470RL-Yageo-datasheet-73766026.pdf; ComponentLink14URL: https://datasheet.octopart.com:443/RC0805FR-07470RL-Yageo-datasheet-118657.pdf?src-supplier=DigiKey; ComponentLink14Description: https://datasheet.octopart.com:443/RC0805FR-07470RL-Yageo-datasheet-118657.pdf?src-supplier=DigiKey; ComponentLink15URL: https://datasheet.octopart.com:443/RC0805FR-07470RL-Yageo-datasheet-502840.pdf?src-supplier=element14; ComponentLink15Description: https://datasheet.octopart.com:443/RC0805FR-07470RL-Yageo-datasheet-502840.pdf?src-supplier=element14; ComponentLink16URL: http://sigma.octopart.com:80/conflict_mineral_statement/Yageo-company-3.pdf?src-supplier=Compliance+Statements; ComponentLink16Description: http://sigma.octopart.com:80/conflict_mineral_statement/Yageo-company-3.pdf?src-supplier=Compliance+Statements; ComponentLink17URL: http://sigma.octopart.com:80/rohs_statement/Yageo-company-2.pdf?src-supplier=Compliance+Statements; ComponentLink17Description: http://sigma.octopart.com:80/rohs_statement/Yageo-company-2.pdf?src-supplier=Compliance+Statements
footprint RESC2013X60X35ML10T20 (Chip Resistor, 2-Leads, Body 2.1x1.35mm, IPC Low Density)
pins: 1, 2

## ABM8AIG-8.000MHZ-1Z-T_1
designator Y?
Crystal, Aec-Q200, 8Mhz, 3.2Mm X 2.5Mm Rohs Compliant: Yes |Abracon ABM8AIG-8.000MHZ-1Z-T; MF: Abracon LLC; Frequency Stability: 50ppm; Frequency Tolerance: 0.001%; Load Capacitance: 18pF; ESR: 500Ω; SnapEDA_Link: https://www.snapeda.com/parts/ABM8AIG-8.000MHZ-1Z-T/Abracon/view-part/?ref=snap; Package: NON STANDARD Abracon; Value: *; MP: ABM8AIG-8.000MHZ-1Z-T; Check_prices: https://www.snapeda.com/parts/ABM8AIG-8.000MHZ-1Z-T/Abracon/view-part/?ref=eda; Supplier: DigiKey; Supplier Part Number: 535-15256-6-ND; Manufacturer: Abracon; Manufacturer Part Number: ABM8AIG-8.000MHZ-1Z-T; RoHS: Compliant; Category: Crystals; Pricing: 1=1.1, 10=0.959, 25=0.9064, 50=0.869, 100=0.833, 250=0.78776, 500=0.75518 (USD); China RoHS: Compliant; Country of Origin: Taiwan; Frequency: 8MHz; Introduction Date: 2019-06-13; Lifecycle Status: Production; Max Operating Temperature: 125°C; Min Operating Temperature: -40°C; Mounting Technology: Surface Mount; REACH SVHC: Yes; ComponentLink1URL: https://datasheet.octopart.com:443/ABM8AIG-8.000MHZ-1Z-T-Abracon-datasheet-154833173.pdf?src-supplier=Master+Electronics; ComponentLink1Description: https://datasheet.octopart.com:443/ABM8AIG-8.000MHZ-1Z-T-Abracon-datasheet-154833173.pdf?src-supplier=Master+Electronics; ComponentLink2URL: https://datasheet.octopart.com:443/ABM8AIG-8.000MHZ-1Z-T-Abracon-datasheet-78375026.pdf?src-supplier=JRH+Electronics; ComponentLink2Description: https://datasheet.octopart.com:443/ABM8AIG-8.000MHZ-1Z-T-Abracon-datasheet-78375026.pdf?src-supplier=JRH+Electronics; ComponentLink3URL: http://sigma.octopart.com:80/conflict_mineral_statement/Abracon-company-27.pdf?src-supplier=Compliance+Statements; ComponentLink3Description: http://sigma.octopart.com:80/conflict_mineral_statement/Abracon-company-27.pdf?src-supplier=Compliance+Statements
footprint XTAL_ABM8AIG-8.000MHZ-1Z-T
pins: 1, 2 GND (power), 3 2, 4 GND (power)

## AD8233
designator *

## ADS1292R
designator *

## CAP-0603-IPC-B
designator C?, comment 0603ZC103MAT2A
Manufacturer: AVX Interconnect / Elco; Part Number: 0603ZC103MAT2A
footprint CAP-0603-IPC_B
pins: 1, 2
1 alternate drawing of the same symbol

## CAP-0603_16V- 8pF_murata
designator C?, comment CAP-0603-8pF
Ceramic Capacitor for Automotive 16pF  ±5% 100VDC C0G 0603 Paper T/R; Voltage Rating: 100V; Min Operating Temperature: -55°C; Package Quantity: 4000; Case/Package: 0603; Height: 0.8mm; Tolerance: 5%; Depth: 0.8mm; Thickness: 0.035inch; Max Operating Temperature: 125°C; Ratings: AEC-Q200; Packaging: Tape and Reel; Termination: SMD/SMT; Mount: Surface Mount; Voltage Rating (DC): 100V; Case Code (Imperial): 0603; Length: 1.6mm; Capacitance: 16pF; Case Code (Metric): 1608; Dielectric: C0G; Radiation Hardening: No; Width: 0.031inch
footprint CAP-0603-IPC_B
pins: 1, 2

## CAP-0603_16V- 16pf_murata
designator C?, comment CAP-0603-16pF
Ceramic Capacitor for Automotive 16pF  ±5% 100VDC C0G 0603 Paper T/R; Voltage Rating: 100V; Min Operating Temperature: -55°C; Package Quantity: 4000; Case/Package: 0603; Height: 0.8mm; Tolerance: 5%; Depth: 0.8mm; Thickness: 0.035inch; Max Operating Temperature: 125°C; Ratings: AEC-Q200; Packaging: Tape and Reel; Termination: SMD/SMT; Mount: Surface Mount; Voltage Rating (DC): 100V; Case Code (Imperial): 0603; Length: 1.6mm; Capacitance: 16pF; Case Code (Metric): 1608; Dielectric: C0G; Radiation Hardening: No; Width: 0.031inch
footprint CAP-0603-IPC_B
pins: 1, 2

## CAP-0805-IPC-B
designator C?, comment Val
footprint CAP-0805-IPC_B
pins: 1, 2

## CMP-0686-00639-3 Ferrite bead
designator FB?, comment BLM21AG601SN1D
Chip Ferrite Bead, 0805, 600Ω @ 100MHz, 0.2Ω, 25%, 700mA; Material: Steel; DC Current: 200mA; Impedance: 600R; Current Rating: 600mA; Number of Circuits: 1; Shielding: Unshielded; DC Resistance (DCR): 210mR; Temperature Coefficient: 10ppm/°C; Conductor Material: Copper; Radiation Hardening: No; Test Frequency: 100MHz; Height: 0.85mm; Max Current Rating: 700mA; REACH SVHC: No SVHC; Case Code (Metric): 2012; Max DC Current: 200mA; Min Operating Temperature: -55°C; ESR (Equivalent Series Resistance): 600R; Case/Package: 0805; Tolerance: 25%; Number of Pins: 2; Depth: 1.25mm; Lead Free: Lead Free; Frequency: 100MHz; Length: 2mm; Package Quantity: 1; Max Operating Temperature: 125°C; Case Code (Imperial): 0805; Width: 1.25mm; Core Material: Ferrite; RoHS Compliant: Yes; Termination: SMD/SMT; Number of Lines: 1; Packaging: Tape and Reel
footprint Ferrite bead
pins: 1, 2

## HM-10
designator E?
Bluetooth 4.0 module with 4pin base board that can support iphone4s or later.; MF: Jinan Huamao Technology; MP: HM-10; SnapEDA_Link: https://www.snapeda.com/parts/HM-10/Jinan+Huamao+Technology/view-part/?ref=snap; Package: Package; Value: *; Check_prices: https://www.snapeda.com/parts/HM-10/Jinan+Huamao+Technology/view-part/?ref=eda
footprint HM-10
pins: 1 UART_TX (io), 2 UART_RX (io), 3 UART_CTS (io), 4 UART_RTS (io), 5 NC5 (io), 6 NC6 (io), 8 NC8 (io), 9 NC9 (io), 10 NC10 (io), 11 RESET (io), 12 +3.3V (io), 13 GND (io), 14 GND (io), 15 USB_D- (io), 16 NC16 (io), 17 NC17 (io), 18 NC18 (io), 19 NC19 (io), 20 USB_D+ (io), 21 GND (io), 22 GND (io), 23 KEY (io), 24 LED (io), 25 PIO2 (io), 26 PIO3 (io), 27 PIO4 (io), 28 PIO5 (io), 29 PIO6 (io), 30 PIO7 (io), 31 PIO8 (io), 32 PIO9 (io), 33 PIO10 (io), 34 PIO11 (io), $7 NC7 (io)
text: http://www.jnhuamao.cn/

## LED SMD 0805
designator *
LED BLUE CLEAR CHIP SMD / Blue 465nm LED Indication - Discrete 3.3V 0805 (2012 Metric); Manufacturer: Kingbright; Manufacturer Part Number: APHCM2012QBC/D-F01; Forward Current: 30mA; Lens Color: Clear, Colorless; Lens Style: Clear, Flat; Luminous Intensity: 100mcd; Max Junction Temperature (Tj): 115°C; Number of Circuits: 1; Peak Wavelength: 468nm; Power Dissipation: 120mW; Reverse Voltage: 5V; Shape: Rectangular; Test Current: 20mA; Viewing Angle: 110°; Supplier: DigiKey; Supplier Part Number: 754-1505-1-ND; RoHS: Compliant; Category: LEDs; Stock: 31568; Pricing: 1=0.36, 10=0.25, 100=0.1771, 500=0.14414, 1000=0.13329 (USD); Case/Package: 0805; Case Code (Imperial): 0805; Case Code (Metric): 2012; China RoHS: Compliant; Color: Blue; Country of Origin: Mainland China; Dominant Wavelength: 465nm; Export Control Classification Number (ECCN) Code: EAR99; Forward Voltage: 3.3V; Height: 400µm; Harmonized Tariff Schedule (HTS) Code: 8541.40.20.00; Illumination Color: Blue; Introduction Date: 2007-05-03; Lead Free: Lead Free; Length: 2mm; Lens Transparency: Clear; Lifecycle Status: Production; Max Operating Temperature: 85°C; Manufacturer Package Identifier: 0805 (2012 metric); Min Operating Temperature: -40°C; Mounting Technology: Surface Mount; Number of LEDs: 1; Pins: 2; Number of Terminals: 2; Packaging: Tape & Reel (TR); REACH SVHC: Yes; Schedule B: 8541402000, 8541402000|8541402000|8541402000|8541402000|8541402000; Terminal Pitch: 2.1mm; Wavelength: 465nm; Width: 1.25mm; ComponentLink1URL: https://datasheet.octopart.com:443/APHCM2012QBC-D-F01-Kingbright-datasheet-180516551.pdf?src-supplier=IHS; ComponentLink1Description: https://datasheet.octopart.com:443/APHCM2012QBC-D-F01-Kingbright-datasheet-180516551.pdf?src-supplier=IHS; ComponentLink2URL: https://datasheet.octopart.com:443/APHCM2012QBC-D-F01-Kingbright-datasheet-180508351.pdf?src-supplier=IHS; ComponentLink2Description: https://datasheet.octopart.com:443/APHCM2012QBC-D-F01-Kingbright-datasheet-180508351.pdf?src-supplier=IHS; ComponentLink3URL: https://datasheet.octopart.com:443/APHCM2012QBC-D-F01-Kingbright-datasheet-150021453.pdf?src-supplier=Upverter; ComponentLink3Description: https://datasheet.octopart.com:443/APHCM2012QBC-D-F01-Kingbright-datasheet-150021453.pdf?src-supplier=Upverter; ComponentLink4URL: https://datasheet.octopart.com:443/APHCM2012QBC/D-F01-Kingbright-datasheet-12509834.pdf?src-supplier=Sager+Electronics; ComponentLink4Description: https://datasheet.octopart.com:443/APHCM2012QBC/D-F01-Kingbright-datasheet-12509834.pdf?src-supplier=Sager+Electronics; ComponentLink5URL: https://datasheet.octopart.com:443/APHCM2012QBC/D-F01-Kingbright-datasheet-9711919.pdf?src-supplier=RS+(Formerly+Allied+Electronics); ComponentLink5Description: https://datasheet.octopart.com:443/APHCM2012QBC/D-F01-Kingbright-datasheet-9711919.pdf?src-supplier=RS+(Formerly+Allied+Electronics)

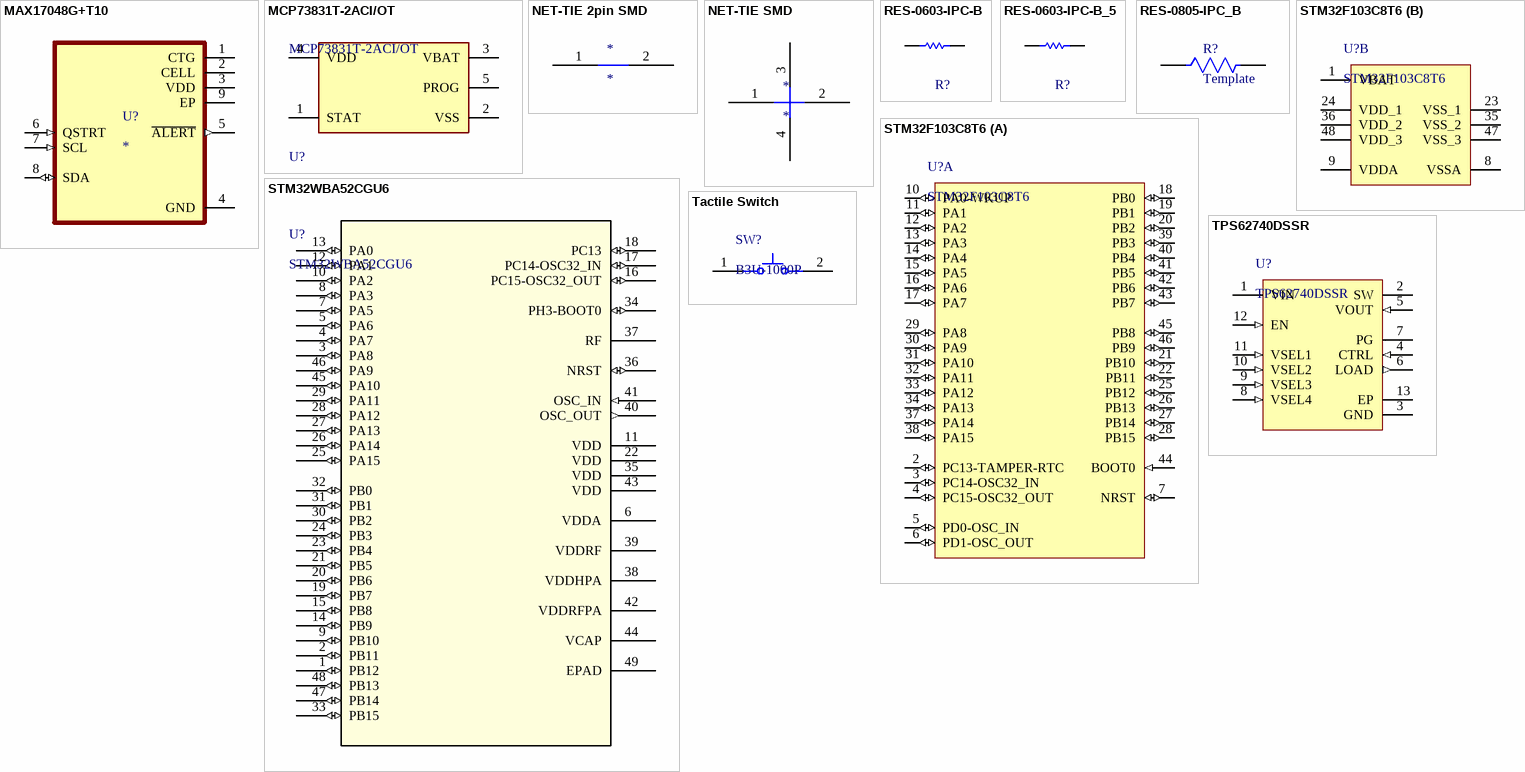
[diagram p1: symbols MAX17048G+T10 to TPS62740DSSR]

## MAX17048G+T10
designator U?
3ÂµA 1-Cell/2-Cell Fuel Gauge with ModelGauge; MF: Analog Devices; MP: MAX17048G+T10; Package: TDFN-8 Maxim; Price: None; Check_prices: https://www.snapeda.com/parts/MAX17048G+T10/Analog+Devices/view-part/?ref=eda; Value: *; SnapEDA_Link: https://www.snapeda.com/parts/MAX17048G+T10/Analog+Devices/view-part/?ref=snap; Availability: In Stock; Purchase-URL: https://pricing.snapeda.com/search/part/MAX17048G+T10/?ref=eda
footprint max17048g+t10
pins: 1 CTG (power), 2 CELL (power), 3 VDD (power), 4 GND (power), 5 ~{ALERT} (out), 6 QSTRT (in), 7 SCL (in), 8 SDA (io), 9 EP (power)

## MCP73831T-2ACI/OT
designator U?
IC CONTROLLR LI-ION 4.2V SOT23-5; Max Power Dissipation: 1.54W; Output Current: 500mA; Max Output Voltage: 4.5V; Number of Outputs: 1; Min Output Voltage: 4.168V; Min Supply Voltage: 3.75V; Max Input Voltage: 6V; Voltage Rating: 4.534V; Drain to Source Resistance: 350mR; Max Operating Temperature: 85°C; Length: 0.122inch; Number of Pins: 5; REACH SVHC: No SVHC; Radiation Hardening: No; Min Operating Temperature: -40°C; Weight: 0.00709oz; Contact Plating: Tin; Termination: SMD/SMT; Case/Package: SOT-23; Mount: Surface Mount; Width: 0.071inch; Packaging: Tape and Reel; Number of Cells: 1; Max Charge Current: 500mA; Height: 0.051inch; Number of Channels: 1; Output Voltage: 4.2V; Max Supply Voltage: 6V; Lead Free: Lead Free
footprint MCP73831T-2ACI/OT
pins: 1 STAT, 2 VSS (power), 3 VBAT (power), 4 VDD (power), 5 PROG

## NET-TIE 2pin SMD
designator *
footprint NET TIE SMD 2 pin
pins: 1 0, 2 1

## NET-TIE SMD
designator *
footprint NET TIE SMD
pins: 1 0, 2 1, 3, 4

## RES-0603-IPC-B
designator R?
Max Power Dissipation: 100mW; Temperature Coefficient: 50ppm/°C; Tolerance: 0.5%; Resistance: 4.7kR; Height: 0.022inch; Width: 0.032inch; RoHS Compliant: Yes; Features: Moisture Resistant; Packaging: Tape and Reel; Number of Terminations: 2; Max Operating Temperature: 155°C; Series: AT; Min Operating Temperature: -55°C; Resistor Type: Thin Film; Length: 0.063inch; Case/Package: 0603
footprint RES-0603-IPC_B
pins: 1, 2

## RES-0603-IPC-B_5
designator R?
Max Power Dissipation: 100mW; Temperature Coefficient: 50ppm/°C; Tolerance: 0.5%; Resistance: 4.7kR; Height: 0.022inch; Width: 0.032inch; RoHS Compliant: Yes; Features: Moisture Resistant; Packaging: Tape and Reel; Number of Terminations: 2; Max Operating Temperature: 155°C; Series: AT; Min Operating Temperature: -55°C; Resistor Type: Thin Film; Length: 0.063inch; Case/Package: 0603
footprint RES-0603-IPC_B
pins: 1, 2

## RES-0805-IPC_B
designator R?, comment Template
footprint RES 0805 Medium (Chip Resistor, 2-Leads, Body 2.1x1.35mm, IPC Medium Density)
pins: 1, 2